# EAGLE library part ACS71X (library sensors)
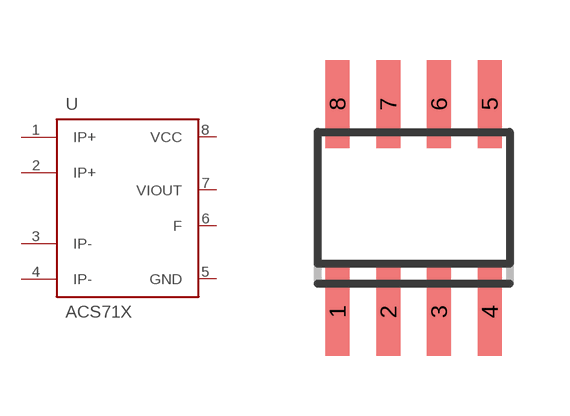
[diagram p2: symbol with the pads of SOIC8; footprint SOIC8]

Designator prefix U

## ACS71X  [SOIC8]
1  IP+
2  IP+
3  IP-
4  IP-
5  GND  pwr
6  F  in
7  VIOUT  out
8  VCC  pwr

## Footprint SOIC8 (pad centres in mm)
smd 0.6 x 2.2: 1 -1.905,-2.6; 2 -0.635,-2.6; 3 0.635,-2.6; 4 1.905,-2.6; 5 1.905,2.6; 6 0.635,2.6; 7 -0.635,2.6; 8 -1.905,2.6